# EAGLE library part ESP32-CAM (library BottleSumo Library v104)
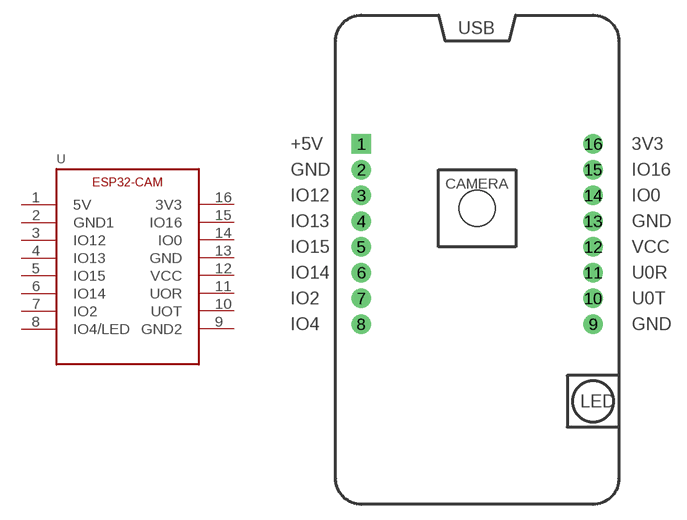
[diagram p9: symbol with the pads of ESP32-CAM; footprint ESP32-CAM]

Designator prefix U

## ESP32-CAM  [ESP32-CAM]
1  5V
2  GND1
3  IO12
4  IO13
5  IO15
6  IO14
7  IO2
8  IO4/LED
9  GND2
10  UOT
11  UOR
12  VCC
13  GND
14  IO0
15  IO16
16  3V3

## Footprint ESP32-CAM (pad centres in mm)
drill 1 pad 1.93 square: 1 -11.43,6.35
drill 1 pad 1.93: 2 -11.43,3.81; 3 -11.43,1.27; 4 -11.43,-1.27; 5 -11.43,-3.81; 6 -11.43,-6.35; 7 -11.43,-8.89; 8 -11.43,-11.43; 9 11.43,-11.43; 10 11.43,-8.89; 11 11.43,-6.35; 12 11.43,-3.81; 13 11.43,-1.27; 14 11.43,1.27; 15 11.43,3.81; 16 11.43,6.35